# Altium schematic symbol library LTST-C150KRKT.Schlib: 1 symbol
Pins are listed as number, name and electrical type; pins without a type are passive.

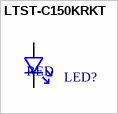
[diagram p0: symbol LTST-C150KRKT]

## LTST-C150KRKT
designator LED?, comment RED
LED SM 1206 RED 2V FWD VOLTAGE
pins: 1, 2